# EAGLE library part HDMI (library custom)
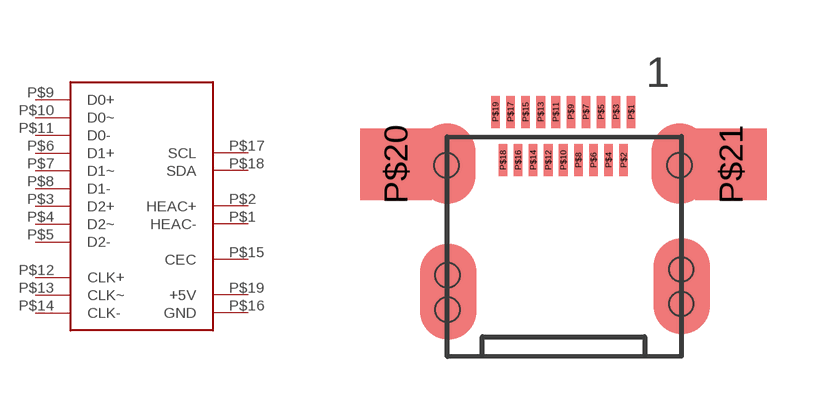
[diagram p23: symbol with the pads of MICRO_HDMI; footprint MICRO_HDMI]

Designator prefix -

## HDMI_MICRO  [MICRO_HDMI]
P$1  HEAC-
P$2  HEAC+
P$3  D2+
P$4  D2~
P$5  D2-
P$6  D1+
P$7  D1~
P$8  D1-
P$9  D0+
P$10  D0~
P$11  D0-
P$12  CLK+
P$13  CLK~
P$14  CLK-
P$15  CEC
P$16  GND
P$17  SCL
P$18  SDA
P$19  +5V

## Footprint MICRO_HDMI (pad centres in mm)
FCI Micro HDMI (10118242-001RLF) Digikey: 609-4617-1-ND <http://www.digikey.de/product-detail/de/10118242-001RLF/609-4617-1-ND/2785374>
smd 0.23 x 0.85: P$1 1.795,6.47; P$2 1.595,5.19; P$3 1.395,6.47; P$4 1.195,5.19; P$5 0.995,6.47; P$6 0.795,5.19; P$7 0.595,6.47; P$8 0.395,5.19; P$9 0.195,6.47; P$10 -0.005,5.19; P$11 -0.205,6.47; P$12 -0.405,5.19; P$13 -0.605,6.47; P$14 -0.805,5.19; P$15 -1.005,6.47; P$16 -1.205,5.19; P$17 -1.405,6.47; P$18 -1.605,5.19; P$19 -1.805,6.47
smd 1.905 x 1.905: P$20 -4.445,5.08; P$21 4.445,5.08
hole 0.65 at -3.073,2.134
hole 0.65 at -3.073,1.219
hole 0.65 at 3.124,2.286
hole 0.65 at 3.124,1.372
hole 0.65 at -3.099,5.055
hole 0.65 at 3.073,5.055